# EAGLE library part T20F169 (library ICs)
Trion® Field Programmable Gate Array (FPGA) IC 73 1069548 19728 169-VFBGA
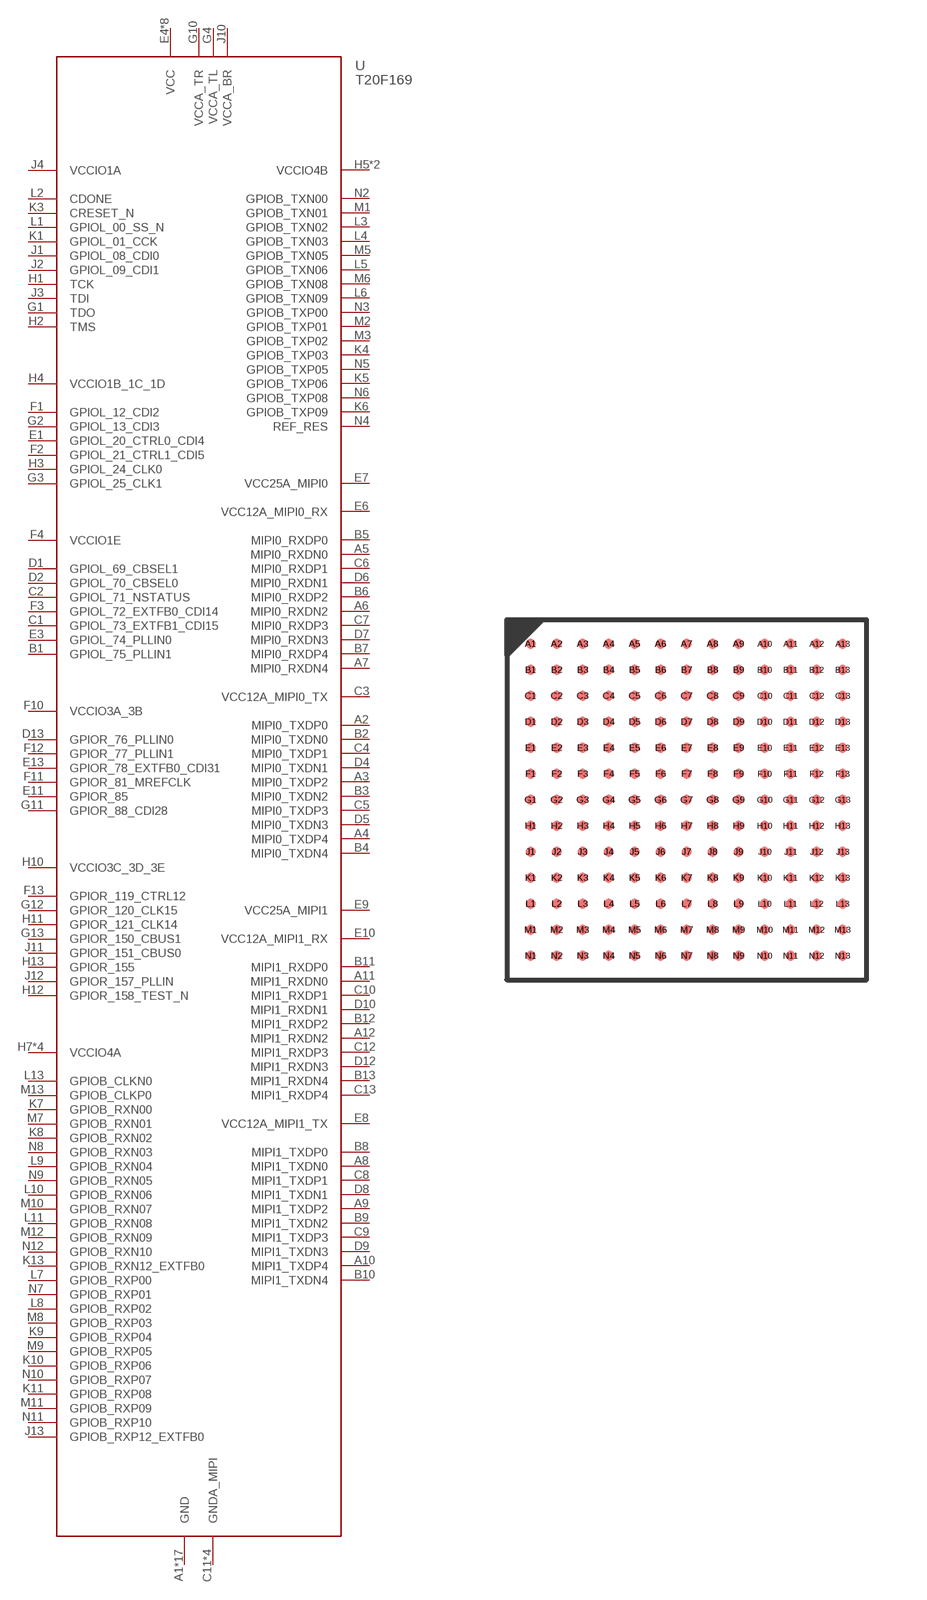
[diagram p342: symbol with the pads of FBGA169; footprint FBGA169]

Designator prefix U

## T20F169I4 (DIGIKEY: 2134-T20F169I4-ND; HEIGHT: 1; PRICE_PER: 12.68; VALUE: T20F169)  [FBGA169]
A1  GND
A2  MIPI0_TXDP0
A3  MIPI0_TXDP2
A4  MIPI0_TXDP4
A5  MIPI0_RXDN0
A6  MIPI0_RXDN2
A7  MIPI0_RXDN4
A8  MIPI1_TXDN0
A9  MIPI1_TXDP2
A10  MIPI1_TXDP4
A11  MIPI1_RXDN0
A12  MIPI1_RXDN2
A13  GND
B1  GPIOL_75_PLLIN1
B2  MIPI0_TXDN0
B3  MIPI0_TXDN2
B4  MIPI0_TXDN4
B5  MIPI0_RXDP0
B6  MIPI0_RXDP2
B7  MIPI0_RXDP4
B8  MIPI1_TXDP0
B9  MIPI1_TXDN2
B10  MIPI1_TXDN4
B11  MIPI1_RXDP0
B12  MIPI1_RXDP2
B13  MIPI1_RXDN4
C1  GPIOL_73_EXTFB1_CDI15
C2  GPIOL_71_NSTATUS
C3  VCC12A_MIPI0_TX
C4  MIPI0_TXDP1
C5  MIPI0_TXDP3
C6  MIPI0_RXDP1
C7  MIPI0_RXDP3
C8  MIPI1_TXDP1
C9  MIPI1_TXDP3
C10  MIPI1_RXDP1
C11  GNDA_MIPI
C12  MIPI1_RXDP3
C13  MIPI1_RXDP4
D1  GPIOL_69_CBSEL1
D2  GPIOL_70_CBSEL0
D3  GNDA_MIPI
D4  MIPI0_TXDN1
D5  MIPI0_TXDN3
D6  MIPI0_RXDN1
D7  MIPI0_RXDN3
D8  MIPI1_TXDN1
D9  MIPI1_TXDN3
D10  MIPI1_RXDN1
D11  GNDA_MIPI
D12  MIPI1_RXDN3
D13  GPIOR_76_PLLIN0
E1  GPIOL_20_CTRL0_CDI4
E2  GND
E3  GPIOL_74_PLLIN0
E4  VCC
E5  GNDA_MIPI
E6  VCC12A_MIPI0_RX
E7  VCC25A_MIPI0
E8  VCC12A_MIPI1_TX
E9  VCC25A_MIPI1
E10  VCC12A_MIPI1_RX
E11  GPIOR_85
E12  GND
E13  GPIOR_78_EXTFB0_CDI31
F1  GPIOL_12_CDI2
F2  GPIOL_21_CTRL1_CDI5
F3  GPIOL_72_EXTFB0_CDI14
F4  VCCIO1E
F5  GND
F6  GND
F7  VCC
F8  GND
F9  VCC
F10  VCCIO3A_3B
F11  GPIOR_81_MREFCLK
F12  GPIOR_77_PLLIN1
F13  GPIOR_119_CTRL12
G1  TDO
G2  GPIOL_13_CDI3
G3  GPIOL_25_CLK1
G4  VCCA_TL
G5  VCC
G6  GND
G7  GND
G8  VCC
G9  VCC
G10  VCCA_TR
G11  GPIOR_88_CDI28
G12  GPIOR_120_CLK15
G13  GPIOR_150_CBUS1
H1  TCK
H2  TMS
H3  GPIOL_24_CLK0
H4  VCCIO1B_1C_1D
H5  VCCIO4B
H6  VCC
H7  VCCIO4A
H8  VCCIO4A
H9  VCCIO4A
H10  VCCIO3C_3D_3E
H11  GPIOR_121_CLK14
H12  GPIOR_158_TEST_N
H13  GPIOR_155
J1  GPIOL_08_CDI0
J2  GPIOL_09_CDI1
J3  TDI
J4  VCCIO1A
J5  VCCIO4B
J6  VCC
J7  GND
J8  GND
J9  VCCIO4A
J10  VCCA_BR
J11  GPIOR_151_CBUS0
J12  GPIOR_157_PLLIN
J13  GPIOB_RXP12_EXTFB0
K1  GPIOL_01_CCK
K2  GND
K3  CRESET_N
K4  GPIOB_TXP03
K5  GPIOB_TXP06
K6  GPIOB_TXP09
K7  GPIOB_RXN00
K8  GPIOB_RXN02
K9  GPIOB_RXP04
K10  GPIOB_RXP06
K11  GPIOB_RXP08
K12  GND
K13  GPIOB_RXN12_EXTFB0
L1  GPIOL_00_SS_N
L2  CDONE
L3  GPIOB_TXN02
L4  GPIOB_TXN03
L5  GPIOB_TXN06
L6  GPIOB_TXN09
L7  GPIOB_RXP00
L8  GPIOB_RXP02
L9  GPIOB_RXN04
L10  GPIOB_RXN06
L11  GPIOB_RXN08
L12  GND
L13  GPIOB_CLKN0
M1  GPIOB_TXN01
M2  GPIOB_TXP01
M3  GPIOB_TXP02
M4  GND
M5  GPIOB_TXN05
M6  GPIOB_TXN08
M7  GPIOB_RXN01
M8  GPIOB_RXP03
M9  GPIOB_RXP05
M10  GPIOB_RXN07
M11  GPIOB_RXP09
M12  GPIOB_RXN09
M13  GPIOB_CLKP0
N1  GND
N2  GPIOB_TXN00
N3  GPIOB_TXP00
N4  REF_RES
N5  GPIOB_TXP05
N6  GPIOB_TXP08
N7  GPIOB_RXP01
N8  GPIOB_RXN03
N9  GPIOB_RXN05
N10  GPIOB_RXP07
N11  GPIOB_RXP10
N12  GPIOB_RXN10
N13  GND

## Footprint FBGA169 (pad centres in mm)
smd 0.25 x 0.25: A1 -3.9,3.9; A2 -3.25,3.9; A3 -2.6,3.9; A4 -1.95,3.9; A5 -1.3,3.9; A6 -0.65,3.9; A7 0,3.9; A8 0.65,3.9; A9 1.3,3.9; A10 1.95,3.9; A11 2.6,3.9; A12 3.25,3.9; A13 3.9,3.9; B1 -3.9,3.25; B2 -3.25,3.25; B3 -2.6,3.25; B4 -1.95,3.25; B5 -1.3,3.25; B6 -0.65,3.25; B7 0,3.25; B8 0.65,3.25; B9 1.3,3.25; B10 1.95,3.25; B11 2.6,3.25; B12 3.25,3.25; B13 3.9,3.25; C1 -3.9,2.6; C2 -3.25,2.6; C3 -2.6,2.6; C4 -1.95,2.6; C5 -1.3,2.6; C6 -0.65,2.6; C7 0,2.6; C8 0.65,2.6; C9 1.3,2.6; C10 1.95,2.6; C11 2.6,2.6; C12 3.25,2.6; C13 3.9,2.6; D1 -3.9,1.95; D2 -3.25,1.95; D3 -2.6,1.95; D4 -1.95,1.95; D5 -1.3,1.95; D6 -0.65,1.95; D7 0,1.95; D8 0.65,1.95; D9 1.3,1.95; D10 1.95,1.95; D11 2.6,1.95; D12 3.25,1.95; D13 3.9,1.95; E1 -3.9,1.3; E2 -3.25,1.3; E3 -2.6,1.3; E4 -1.95,1.3; E5 -1.3,1.3; E6 -0.65,1.3; E7 0,1.3; E8 0.65,1.3; E9 1.3,1.3; E10 1.95,1.3; E11 2.6,1.3; E12 3.25,1.3; E13 3.9,1.3; F1 -3.9,0.65; F2 -3.25,0.65; F3 -2.6,0.65; F4 -1.95,0.65; F5 -1.3,0.65; F6 -0.65,0.65; F7 0,0.65; F8 0.65,0.65; F9 1.3,0.65; F10 1.95,0.65; F11 2.6,0.65; F12 3.25,0.65; F13 3.9,0.65; G1 -3.9,0; G2 -3.25,0; G3 -2.6,0; G4 -1.95,0; G5 -1.3,0; G6 -0.65,0; G7 0,0; G8 0.65,0; G9 1.3,0; G10 1.95,0; G11 2.6,0; G12 3.25,0; G13 3.9,0; H1 -3.9,-0.65; H2 -3.25,-0.65; H3 -2.6,-0.65; H4 -1.95,-0.65; H5 -1.3,-0.65; H6 -0.65,-0.65; H7 0,-0.65; H8 0.65,-0.65; H9 1.3,-0.65; H10 1.95,-0.65; H11 2.6,-0.65; H12 3.25,-0.65; H13 3.9,-0.65; J1 -3.9,-1.3; J2 -3.25,-1.3; J3 -2.6,-1.3; J4 -1.95,-1.3; J5 -1.3,-1.3; J6 -0.65,-1.3; J7 0,-1.3; J8 0.65,-1.3; J9 1.3,-1.3; J10 1.95,-1.3; J11 2.6,-1.3; J12 3.25,-1.3; J13 3.9,-1.3; K1 -3.9,-1.95; K2 -3.25,-1.95; K3 -2.6,-1.95; K4 -1.95,-1.95; K5 -1.3,-1.95; K6 -0.65,-1.95; K7 0,-1.95; K8 0.65,-1.95; K9 1.3,-1.95; K10 1.95,-1.95; K11 2.6,-1.95; K12 3.25,-1.95; K13 3.9,-1.95; L1 -3.9,-2.6; L2 -3.25,-2.6; L3 -2.6,-2.6; L4 -1.95,-2.6; L5 -1.3,-2.6; L6 -0.65,-2.6; L7 0,-2.6; L8 0.65,-2.6; L9 1.3,-2.6; L10 1.95,-2.6; L11 2.6,-2.6; L12 3.25,-2.6; L13 3.9,-2.6; M1 -3.9,-3.25; M2 -3.25,-3.25; M3 -2.6,-3.25; M4 -1.95,-3.25; M5 -1.3,-3.25; M6 -0.65,-3.25; M7 0,-3.25; M8 0.65,-3.25; M9 1.3,-3.25; M10 1.95,-3.25; M11 2.6,-3.25; M12 3.25,-3.25; M13 3.9,-3.25; N1 -3.9,-3.9; N2 -3.25,-3.9; N3 -2.6,-3.9; N4 -1.95,-3.9; N5 -1.3,-3.9; N6 -0.65,-3.9; N7 0,-3.9; N8 0.65,-3.9; N9 1.3,-3.9; N10 1.95,-3.9; N11 2.6,-3.9; N12 3.25,-3.9; N13 3.9,-3.9